# EAGLE library part 629105136821 (library WR-USB)
WR-COM Micro USB 2.0 SMT Type B Horizontal 5 Contacts Kind Properties Durability:10 000 Mating cycles Quality Class:10 000 Mating cycles Connector Type:Micro USB Gender:Receptacle Type:Horizontal General Information Operating Temperature:-40up to +105 °C Compliance:RoHS Electrical Properties IR 1:1A Working Voltage:30V (AC) Withstanding Voltage:100V (AC) Contact Resistance:30 mΩ Material Properties Insulator Material:LCP Insulator Flammability Rating:UL94 V-0 Color:Black Contact Material:Copper Alloy Contact Plating: Gold Contact Type:Stamped Shielding Material:Stainless Steel Shielding Plating:Nickel <https://www.we-online.com/catalog/media/o32999v209%20Family_WR-COM_629105136821.jpg> Details see: https://www.we-online.com/catalog/en/COM_MICRO_SMT_TYPE_B_HORIZONTAL/ Updated by Yingchun, Shan 2020-01-16 2020 (C) Würth Elektronik
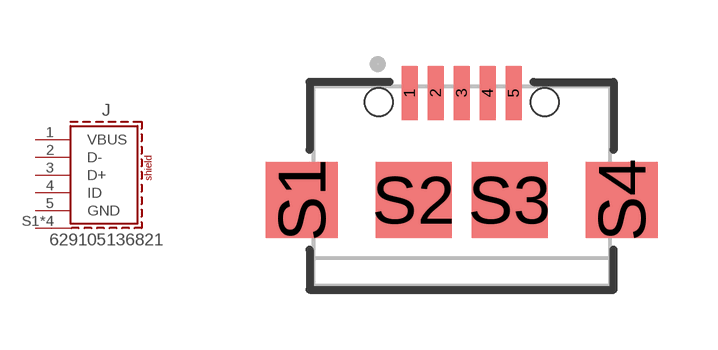
[diagram p30: symbol with the pads of 629105136821; footprint 629105136821]

Designator prefix J

## 629105136821 (APPLICATION: Micro USB 2.0; DATASHEET-URL: https://www.we-online.com/redexpert/spec/629105136821?ae; GERDER: Receptacle; INTERFACE-TYPE: Type B; IR: 1.0A; MOUNT: SMT; PACKAGING: Tape and Reel; PART-NUMBER: 629105136821; PINS: 5; TYPE: Horizontal; VALUE: 629105136821; WORKING-VOLTAGE: 30V(AC))  [629105136821]
1  VBUS  pas
2  D-  pas
3  D+  pas
4  ID  pas
5  GND  pas
S1  SHIELD  pas
S2  SHIELD  pas
S3  SHIELD  pas
S4  SHIELD  pas

## Footprint 629105136821 (pad centres in mm)
WR-COM Micro USB 2.0 SMT Type B Horizontal 5 Contacts
smd 0.4 x 1.35: 1 -1.3,2.325; 2 -0.65,2.325; 3 0,2.325; 4 0.65,2.325; 5 1.3,2.325
smd 1.8 x 1.9: S1 -4,-0.35; S4 4,-0.35
smd 1.9 x 1.9: S2 -1.2,-0.35; S3 1.2,-0.35
hole 0.7 at -2.075,2.1
hole 0.7 at 2.075,2.1